# EAGLE library part NRPN09 (library con-sullins-nrpn)
HEADER
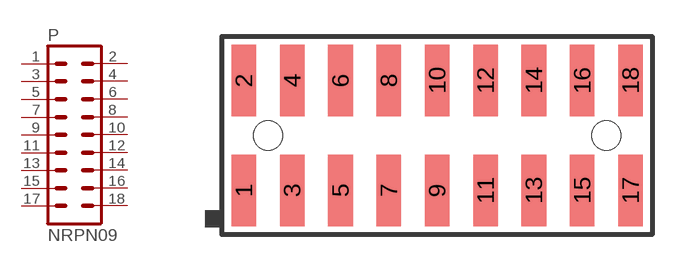
[diagram p6: symbol with the pads of NRPN09; footprint NRPN09]

Designator prefix P

## NRPN09  [NRPN09]
1  1  pas
2  2  pas
3  3  pas
4  4  pas
5  5  pas
6  6  pas
7  7  pas
8  8  pas
9  9  pas
10  10  pas
11  11  pas
12  12  pas
13  13  pas
14  14  pas
15  15  pas
16  16  pas
17  17  pas
18  18  pas

## Footprint NRPN09 (pad centres in mm)
HEADER
smd 1.02 x 2.95: 1 -8,-2.275; 2 -8,2.275; 3 -6,-2.275; 4 -6,2.275; 5 -4,-2.275; 6 -4,2.275; 7 -2,-2.275; 8 -2,2.275; 9 0,-2.275; 10 0,2.275; 11 2,-2.275; 12 2,2.275; 13 4,-2.275; 14 4,2.275; 15 6,-2.275; 16 6,2.275; 17 8,-2.275; 18 8,2.275
hole 1.2 at -7,0
hole 1.2 at 7,0